# EAGLE library part 74LVC541A (library Gekkio-nxp)
Octal buffer/line driver with 5 V tolerant inputs/outputs; 3-state
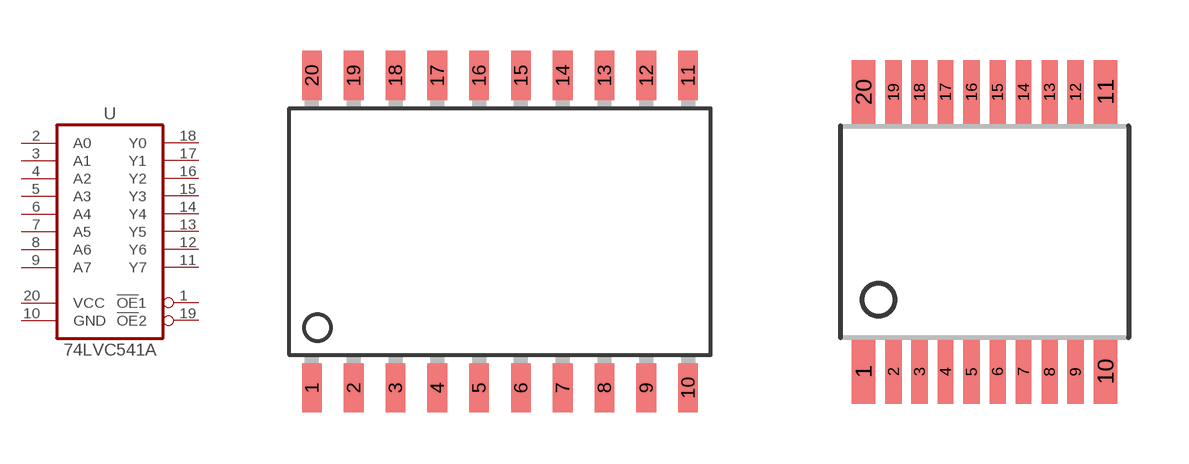
[diagram p3: symbol with the pads of SOT163-1; footprints SOT163-1, SOT339-1]

Designator prefix U

## 74LVC541AD  [SOT163-1]
1  !OE!1  in
2  A0  hiz
3  A1  hiz
4  A2  hiz
5  A3  hiz
6  A4  hiz
7  A5  hiz
8  A6  hiz
9  A7  hiz
10  GND  pwr
11  Y7  hiz
12  Y6  hiz
13  Y5  hiz
14  Y4  hiz
15  Y3  hiz
16  Y2  hiz
17  Y1  hiz
18  Y0  hiz
19  !OE!2  in
20  VCC  pwr

## 74LVC541ADB  [SOT339-1]
Pads as for SOT163-1

## 74LVC541APW  [SOT360-1]
Pads as for SOT163-1

## 74LVC541ABQ  [SOT764-1]
1  !OE!1  in
2  A0  hiz
3  A1  hiz
4  A2  hiz
5  A3  hiz
6  A4  hiz
7  A5  hiz
8  A6  hiz
9  A7  hiz
10  GND  pwr
11  Y7  hiz
12  Y6  hiz
13  Y5  hiz
14  Y4  hiz
15  Y3  hiz
16  Y2  hiz
17  Y1  hiz
18  Y0  hiz
19  !OE!2  in
20  VCC  pwr
21  GND  pwr

## Footprint SOT163-1 (pad centres in mm)
SOT163-1 (SO20) plastic small outline package 20 leads body width 7.5 mm Not tested! Source: NXP SOT163-1 Package Information, 8 February 2016
smd 0.6 x 1.5: 1 -5.715,-4.75; 2 -4.445,-4.75; 3 -3.175,-4.75; 4 -1.905,-4.75; 5 -0.635,-4.75; 6 0.635,-4.75; 7 1.905,-4.75; 8 3.175,-4.75; 9 4.445,-4.75; 10 5.715,-4.75; 11 5.715,4.75; 12 4.445,4.75; 13 3.175,4.75; 14 1.905,4.75; 15 0.635,4.75; 16 -0.635,4.75; 17 -1.905,4.75; 18 -3.175,4.75; 19 -4.445,4.75; 20 -5.715,4.75

## Footprint SOT339-1 (pad centres in mm)
SOT339-1 (SSOP20) plastic shrink small outline package 20 leads body width 5.3 mm Not tested! Source: NXP SOT339-1 Package Information, 8 February 2016
smd 0.6 x 1.6: 1 -3.025,-3.5; 10 3.025,-3.5; 11 3.025,3.5; 20 -3.025,3.5
smd 0.4 x 1.6: 2 -2.275,-3.5; 3 -1.625,-3.5; 4 -0.975,-3.5; 5 -0.325,-3.5; 6 0.325,-3.5; 7 0.975,-3.5; 8 1.625,-3.5; 9 2.275,-3.5; 12 2.275,3.5; 13 1.625,3.5; 14 0.975,3.5; 15 0.325,3.5; 16 -0.325,3.5; 17 -0.975,3.5; 18 -1.625,3.5; 19 -2.275,3.5

## Footprint SOT360-1 (pad centres in mm)
SOT360-1 (TSSOP20) plastic thin shrink small outline package 20 leads body width 4.4 mm Not tested! Source: NXP SOT360-1 Package Information, 8 February 2016 Soldering footprint: Educated guesswork based on NXP SOT355-1 Package Information, 8 February 2016
smd 0.6 x 1.35: 1 -3.025,-2.95; 10 3.025,-2.95; 11 3.025,2.95; 20 -3.025,2.95
smd 0.4 x 1.35: 2 -2.275,-2.95; 3 -1.625,-2.95; 4 -0.975,-2.95; 5 -0.325,-2.95; 6 0.325,-2.95; 7 0.975,-2.95; 8 1.625,-2.95; 9 2.275,-2.95; 12 2.275,2.95; 13 1.625,2.95; 14 0.975,2.95; 15 0.325,2.95; 16 -0.325,2.95; 17 -0.975,2.95; 18 -1.625,2.95; 19 -2.275,2.95

## Footprint SOT764-1 (pad centres in mm)
SOT764-1 (DHVQFN20) plastic dual in-line compatible thermal enhanced very thin quad flat package no leads 20 terminals body 2.5 x 4.5 x 0.85 mm Not tested! Source: NXP SOT764-1 Package Information, 8 February 2016
smd 1 x 0.29: 1 -2.25,-0.25; 10 2.25,-0.25; 11 2.25,0.25; 20 -2.25,0.25
smd 0.29 x 1: 2 -1.75,-1.35; 3 -1.25,-1.35; 4 -0.75,-1.35; 5 -0.25,-1.35; 6 0.25,-1.35; 7 0.75,-1.35; 8 1.25,-1.35; 9 1.75,-1.35; 12 1.75,1.35; 13 1.25,1.35; 14 0.75,1.35; 15 0.25,1.35; 16 -0.25,1.35; 17 -0.75,1.35; 18 -1.25,1.35; 19 -1.75,1.35
smd 2.9 x 0.9: 21 0,0